# Altium footprint library DIODE_SMB.PcbLib: 1 footprints
Each footprint in its own frame and in the unit in brackets; x right, y up, seen from the top. Pads: shape width x height; smd on the part's side, far side on the other; paste and mask are expansions set on the pad; w line width, h text height; cw(c..) or ccw(c..) is an arc to the next point about the centre after c.
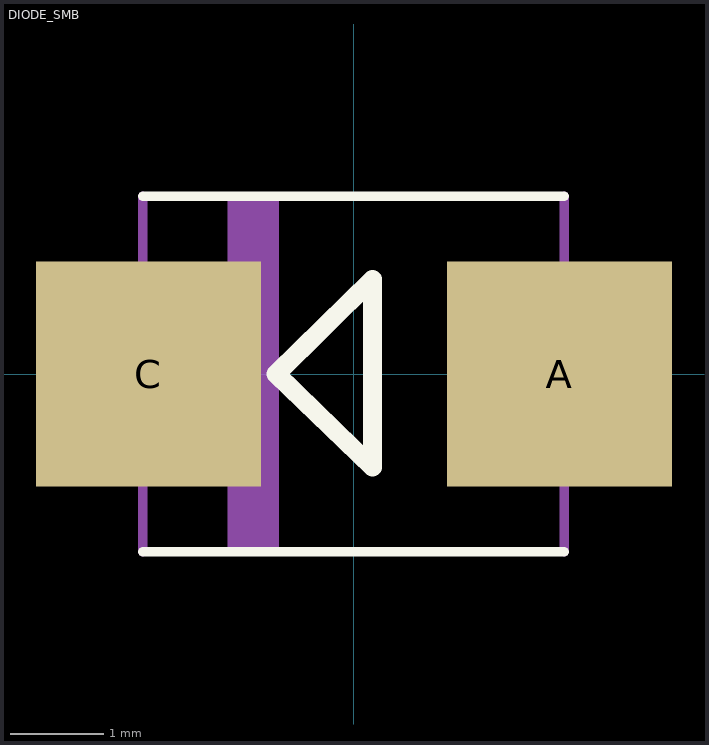
[diagram p0: the footprint, top view; thin cyan lines are the x and y axes]

## DIODE_SMB [mil]
pads (2):
  rect 95x95 smd: A(87,0) C(-86.61,0)
Top Overlay:
  lines w4: -89,-75 89,-75 ; -89,75 89,75
  lines w8: -32.68,0 8,40 8,-39.37 -32.68,0
Mechanical 16:
  rectangle: -110,-43 -89,43
  rectangle: 89,-43 110,43
  rectangle: -53.15,-74.8 -31.5,75
  lines w4: -89,-75 -89,75 ; 89,-75 89,75